# Altium integrated library xk_0402.IntLib: 1 symbol
Pins are listed as number, name and electrical type; pins without a type are passive.

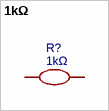
[diagram p0: symbol 1kΩ]

## 1kΩ
designator R?
Manufacturer: Sunway(信维通信); Manufacturer Part: SC0402J1001F2ANRH; Contributor: lcsc; nameAlias: Value; Supplier: LCSC; Supplier Part: C3152105; JLCPCB Part Class: Extended Part; spicePre: R; spiceSymbolName: SC0402J1001F2ANRH
footprint R0402
pins: 1, 2